# Altium schematic symbol library ltc4151ims#pbf.SchLib: 1 symbol
Pins are listed as number, name and electrical type; pins without a type are passive.

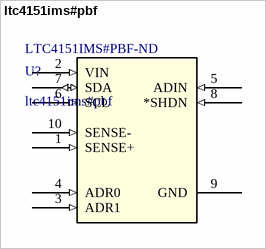
[diagram p0: symbol ltc4151ims#pbf]

## ltc4151ims#pbf
designator U?  Supplier Part Number 1: LTC4151IMS#PBF-ND
Power Supply Controller Power Supply Monitor 10-MSOP; Mfr_Name: Analog Devices / Linear Technology; Copyright: Copyright (C) 2021 Ultra Librarian. All rights reserved.; Manufacturer_Part_Number: ltc4151ims#pbf; Digi-Key_Part_Number_1: LTC4151IMS#PBF-ND; RefDes: RefDes; Type: DEV; Supplier 1: Digi-Key
footprint MSOP-10_MS_LIT
pins: 1 SENSE+ (in), 2 VIN (in), 3 ADR1 (in), 4 ADR0 (in), 5 ADIN (in), 6 SCL (in), 7 SDA (io), 8 *SHDN (in), 9 GND (power), 10 SENSE- (in)